# Altium schematic symbol library Team Starcraft.SchLib: 46 symbols
Pins are listed as number, name and electrical type; pins without a type are passive.

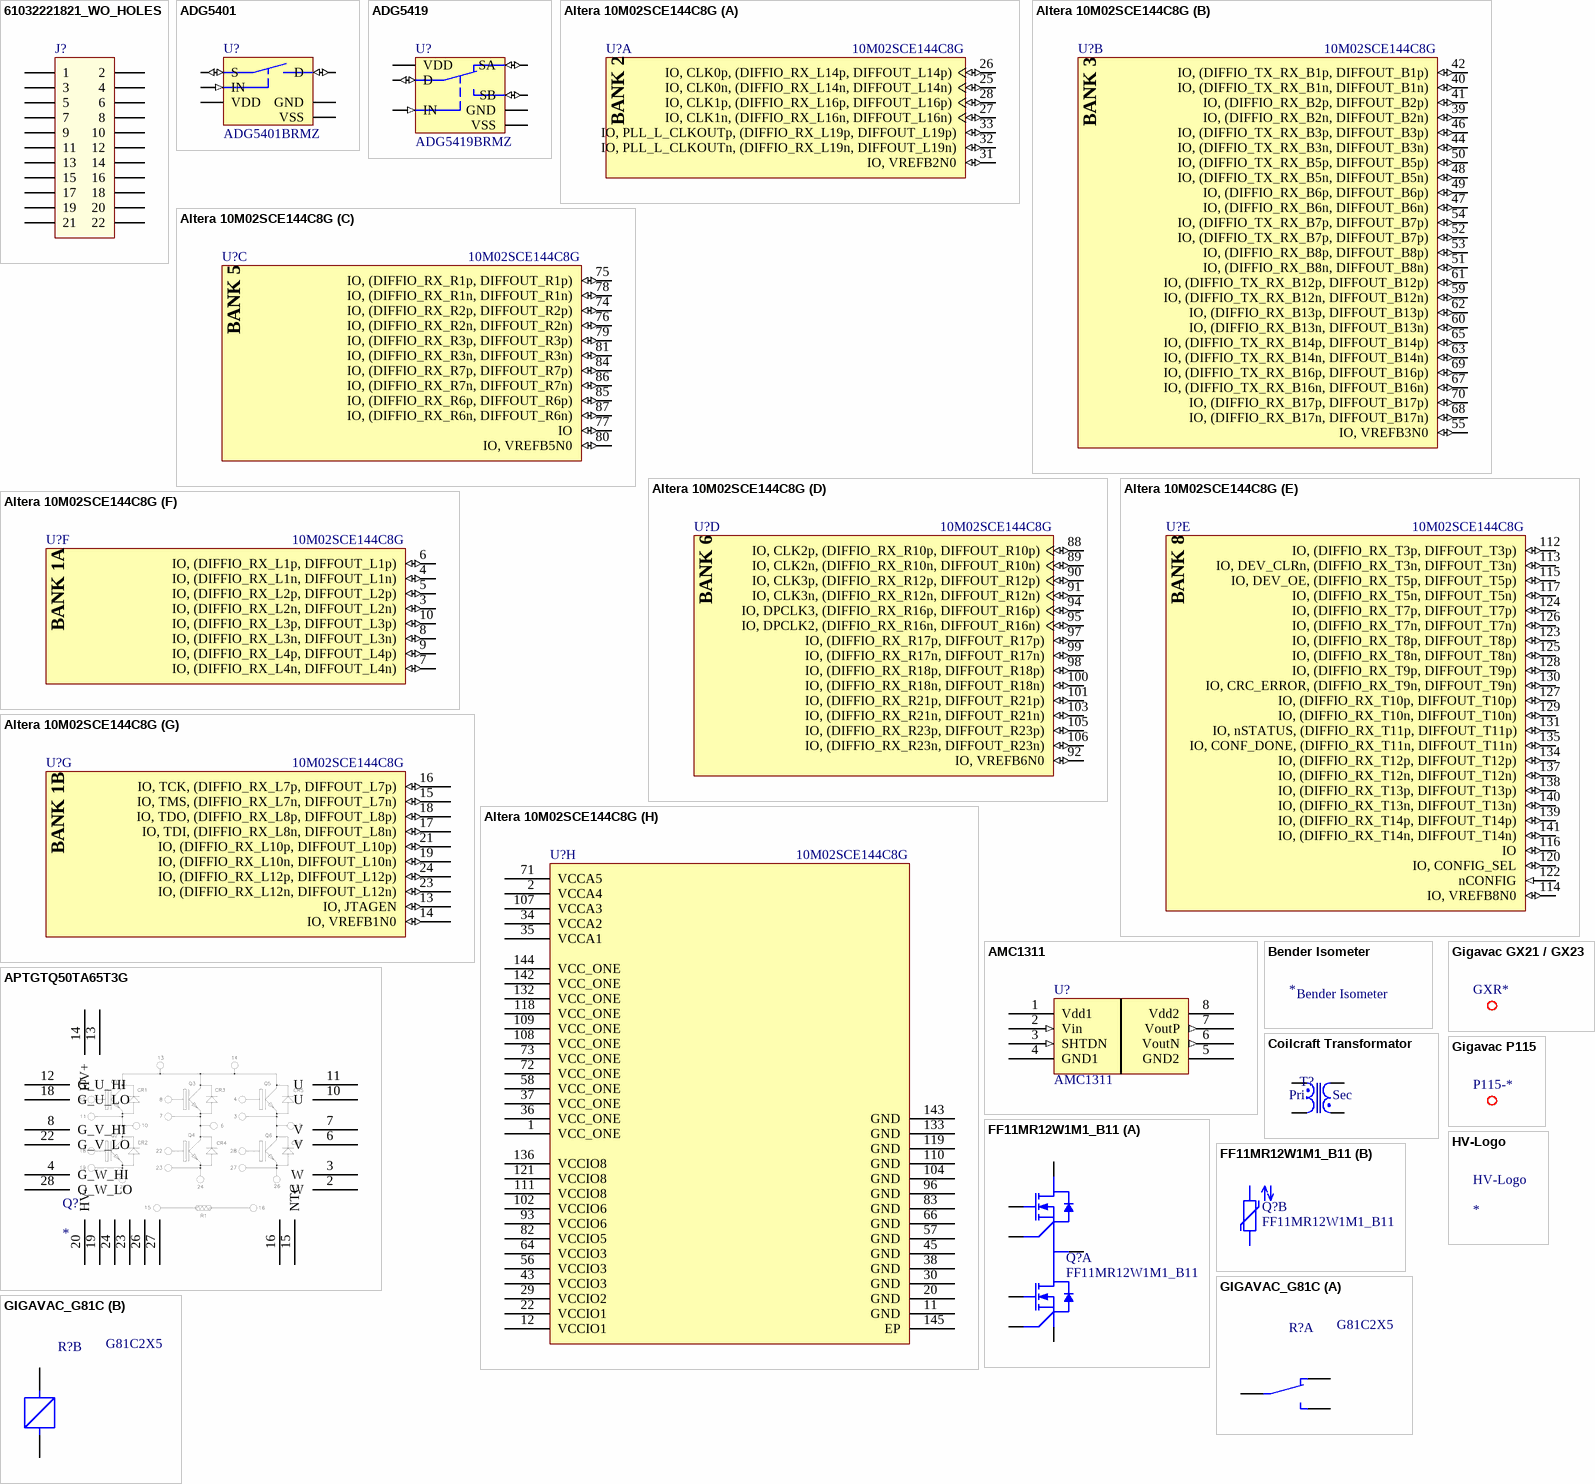
[diagram p0: symbols 61032221821_WO_HOLES to HV-Logo]

## 61032221821_WO_HOLES
designator J?
WR-PHD 2.54 mm Dual SMT Socket Header, 22p; Part Number: 61032221821; Pin Number: 22; Rated Current: 3A; Working Voltage: 250V AC; Withstanding Voltage: 600V AC; Pitch: 2.54mm; ComponentLink1Description: Manufacturer; ComponentLink1URL: http://www.we-online.de; ComponentLink2Description: Datasheet; ComponentLink2URL: http://katalog.we-online.de/em/datasheet/6103xx21821.pdf; Published Date: August 2017; Publisher: Wurth Elektronik
footprint 61032221821_WO_HOLES (Dual SMT Socket Header, pitch 2.54mm, 22p, without holes)
pins: 1, 2, 3, 4, 5, 6, 7, 8, 9, 10, 11, 12, 13, 14, 15, 16, 17, 18, 19, 20, 21, 22

## ADG5401
designator U?, comment ADG5401BRMZ
High Voltage Latch-Up Proof, Single SPST Switch / ±9 V to ±22 V dual-supply operation / 9 V to 40 V single-supply operation; ComponentLink1Description: Webpage; ComponentLink1URL: https://www.analog.com/en/products/adg5401.html; ComponentLink2Description: Datasheet; ComponentLink2URL: https://www.analog.com/media/en/technical-documentation/data-sheets/ADG5401.pdf
footprint ANALOG_RM8 (Analog Devices 8-Lead Mini Small Outline Package [MSOP])
pins: 1 S (io), 3 GND (power), 4 VDD (power), 6 IN (in), 7 VSS (power), 8 D (io)

## ADG5419
designator U?, comment ADG5419BRMZ
High Voltage Latch-Up Proof, Single SPDT Switch / ±9 V to ±22 V dual-supply operation / 9 V to 40 V single-supply operation; ComponentLink1Description: Webpage; ComponentLink1URL: https://www.analog.com/en/products/adg5401.html; ComponentLink2Description: Datasheet; ComponentLink2URL: https://www.analog.com/media/en/technical-documentation/data-sheets/ADG5401.pdf
footprint ANALOG_RM8 (Analog Devices 8-Lead Mini Small Outline Package [MSOP])
pins: 1 D (io), 2 SA (io), 3 GND (power), 4 VDD (power), 6 IN (in), 7 VSS (power), 8 SB (io)

## Altera 10M02SCE144C8G
designator U?, comment 10M02SCE144C8G
FPGA, 101 I/O, 2000LE, single power supply
footprint Altera EQFP144 (SQFP, 144-Leads, Body 20,00x20,00mm, Pitch 0,50mm, Thermal Pad 4,15x4,15mm, IPC Low Density)
part A pins: 25 IO, CLK0n, (DIFFIO_RX_L14n, DIFFOUT_L14n) (io), 26 IO, CLK0p, (DIFFIO_RX_L14p, DIFFOUT_L14p) (io), 27 IO, CLK1n, (DIFFIO_RX_L16n, DIFFOUT_L16n) (io), 28 IO, CLK1p, (DIFFIO_RX_L16p, DIFFOUT_L16p) (io), 31 IO, VREFB2N0 (io), 32 IO, PLL_L_CLKOUTn, (DIFFIO_RX_L19n, DIFFOUT_L19n) (io), 33 IO, PLL_L_CLKOUTp, (DIFFIO_RX_L19p, DIFFOUT_L19p) (io)
part B pins: 39 IO, (DIFFIO_RX_B2n, DIFFOUT_B2n) (io), 40 IO, (DIFFIO_TX_RX_B1n, DIFFOUT_B1n) (io), 41 IO, (DIFFIO_RX_B2p, DIFFOUT_B2p) (io), 42 IO, (DIFFIO_TX_RX_B1p, DIFFOUT_B1p) (io), 44 IO, (DIFFIO_TX_RX_B3n, DIFFOUT_B3n) (io), 46 IO, (DIFFIO_TX_RX_B3p, DIFFOUT_B3p) (io), 47 IO, (DIFFIO_RX_B6n, DIFFOUT_B6n) (io), 48 IO, (DIFFIO_TX_RX_B5n, DIFFOUT_B5n) (io), 49 IO, (DIFFIO_RX_B6p, DIFFOUT_B6p) (io), 50 IO, (DIFFIO_TX_RX_B5p, DIFFOUT_B5p) (io), 51 IO, (DIFFIO_RX_B8n, DIFFOUT_B8n) (io), 52 IO, (DIFFIO_TX_RX_B7p, DIFFOUT_B7p) (io), 53 IO, (DIFFIO_RX_B8p, DIFFOUT_B8p) (io), 54 IO, (DIFFIO_TX_RX_B7p, DIFFOUT_B7p) (io), 55 IO, VREFB3N0 (io), 59 IO, (DIFFIO_TX_RX_B12n, DIFFOUT_B12n) (io), 60 IO, (DIFFIO_RX_B13n, DIFFOUT_B13n) (io), 61 IO, (DIFFIO_TX_RX_B12p, DIFFOUT_B12p) (io), 62 IO, (DIFFIO_RX_B13p, DIFFOUT_B13p) (io), 63 IO, (DIFFIO_TX_RX_B14n, DIFFOUT_B14n) (io), 65 IO, (DIFFIO_TX_RX_B14p, DIFFOUT_B14p) (io), 67 IO, (DIFFIO_TX_RX_B16n, DIFFOUT_B16n) (io), 68 IO, (DIFFIO_RX_B17n, DIFFOUT_B17n) (io), 69 IO, (DIFFIO_TX_RX_B16p, DIFFOUT_B16p) (io), 70 IO, (DIFFIO_RX_B17p, DIFFOUT_B17p) (io)
part C pins: 74 IO, (DIFFIO_RX_R2p, DIFFOUT_R2p) (io), 75 IO, (DIFFIO_RX_R1p, DIFFOUT_R1p) (io), 76 IO, (DIFFIO_RX_R2n, DIFFOUT_R2n) (io), 77 IO (io), 78 IO, (DIFFIO_RX_R1n, DIFFOUT_R1n) (io), 79 IO, (DIFFIO_RX_R3p, DIFFOUT_R3p) (io), 80 IO, VREFB5N0 (io), 81 IO, (DIFFIO_RX_R3n, DIFFOUT_R3n) (io), 84 IO, (DIFFIO_RX_R7p, DIFFOUT_R7p) (io), 85 IO, (DIFFIO_RX_R6p, DIFFOUT_R6p) (io), 86 IO, (DIFFIO_RX_R7n, DIFFOUT_R7n) (io), 87 IO, (DIFFIO_RX_R6n, DIFFOUT_R6n) (io)
part D pins: 88 IO, CLK2p, (DIFFIO_RX_R10p, DIFFOUT_R10p) (io), 89 IO, CLK2n, (DIFFIO_RX_R10n, DIFFOUT_R10n) (io), 90 IO, CLK3p, (DIFFIO_RX_R12p, DIFFOUT_R12p) (io), 91 IO, CLK3n, (DIFFIO_RX_R12n, DIFFOUT_R12n) (io), 92 IO, VREFB6N0 (io), 94 IO, DPCLK3, (DIFFIO_RX_R16p, DIFFOUT_R16p) (io), 95 IO, DPCLK2, (DIFFIO_RX_R16n, DIFFOUT_R16n) (io), 97 IO, (DIFFIO_RX_R17p, DIFFOUT_R17p) (io), 98 IO, (DIFFIO_RX_R18p, DIFFOUT_R18p) (io), 99 IO, (DIFFIO_RX_R17n, DIFFOUT_R17n) (io), 100 IO, (DIFFIO_RX_R18n, DIFFOUT_R18n) (io), 101 IO, (DIFFIO_RX_R21p, DIFFOUT_R21p) (io), 103 IO, (DIFFIO_RX_R21n, DIFFOUT_R21n) (io), 105 IO, (DIFFIO_RX_R23p, DIFFOUT_R23p) (io), 106 IO, (DIFFIO_RX_R23n, DIFFOUT_R23n) (io)
part E pins: 112 IO, (DIFFIO_RX_T3p, DIFFOUT_T3p) (io), 113 IO, DEV_CLRn, (DIFFIO_RX_T3n, DIFFOUT_T3n) (io), 114 IO, VREFB8N0 (io), 115 IO, DEV_OE, (DIFFIO_RX_T5p, DIFFOUT_T5p) (io), 116 IO (io), 117 IO, (DIFFIO_RX_T5n, DIFFOUT_T5n) (io), 120 IO, CONFIG_SEL (io), 122 nCONFIG (in), 123 IO, (DIFFIO_RX_T8p, DIFFOUT_T8p) (io), 124 IO, (DIFFIO_RX_T7p, DIFFOUT_T7p) (io), 125 IO, (DIFFIO_RX_T8n, DIFFOUT_T8n) (io), 126 IO, (DIFFIO_RX_T7n, DIFFOUT_T7n) (io), 127 IO, (DIFFIO_RX_T10p, DIFFOUT_T10p) (io), 128 IO, (DIFFIO_RX_T9p, DIFFOUT_T9p) (io), 129 IO, (DIFFIO_RX_T10n, DIFFOUT_T10n) (io), 130 IO, CRC_ERROR, (DIFFIO_RX_T9n, DIFFOUT_T9n) (io), 131 IO, nSTATUS, (DIFFIO_RX_T11p, DIFFOUT_T11p) (io), 134 IO, (DIFFIO_RX_T12p, DIFFOUT_T12p) (io), 135 IO, CONF_DONE, (DIFFIO_RX_T11n, DIFFOUT_T11n) (io), 137 IO, (DIFFIO_RX_T12n, DIFFOUT_T12n) (io), 138 IO, (DIFFIO_RX_T13p, DIFFOUT_T13p) (io), 139 IO, (DIFFIO_RX_T14p, DIFFOUT_T14p) (io), 140 IO, (DIFFIO_RX_T13n, DIFFOUT_T13n) (io), 141 IO, (DIFFIO_RX_T14n, DIFFOUT_T14n) (io)
part F pins: 3 IO, (DIFFIO_RX_L2n, DIFFOUT_L2n) (io), 4 IO, (DIFFIO_RX_L1n, DIFFOUT_L1n) (io), 5 IO, (DIFFIO_RX_L2p, DIFFOUT_L2p) (io), 6 IO, (DIFFIO_RX_L1p, DIFFOUT_L1p) (io), 7 IO, (DIFFIO_RX_L4n, DIFFOUT_L4n) (io), 8 IO, (DIFFIO_RX_L3n, DIFFOUT_L3n) (io), 9 IO, (DIFFIO_RX_L4p, DIFFOUT_L4p) (io), 10 IO, (DIFFIO_RX_L3p, DIFFOUT_L3p) (io)
part G pins: 13 IO, JTAGEN (io), 14 IO, VREFB1N0 (io), 15 IO, TMS, (DIFFIO_RX_L7n, DIFFOUT_L7n) (io), 16 IO, TCK, (DIFFIO_RX_L7p, DIFFOUT_L7p) (io), 17 IO, TDI, (DIFFIO_RX_L8n, DIFFOUT_L8n) (io), 18 IO, TDO, (DIFFIO_RX_L8p, DIFFOUT_L8p) (io), 19 IO, (DIFFIO_RX_L10n, DIFFOUT_L10n) (io), 21 IO, (DIFFIO_RX_L10p, DIFFOUT_L10p) (io), 23 IO, (DIFFIO_RX_L12n, DIFFOUT_L12n) (io), 24 IO, (DIFFIO_RX_L12p, DIFFOUT_L12p) (io)
part H pins: 1 VCC_ONE (power), 2 VCCA4 (power), 11 GND (power), 12 VCCIO1 (power), 20 GND (power), 22 VCCIO1 (power), 29 VCCIO2 (power), 30 GND (power), 34 VCCA2 (power), 35 VCCA1 (power), 36 VCC_ONE (power), 37 VCC_ONE (power), 38 GND (power), 43 VCCIO3 (power), 45 GND (power), 56 VCCIO3 (power), 57 GND (power), 58 VCC_ONE (power), 64 VCCIO3 (power), 66 GND (power), 71 VCCA5 (power), 72 VCC_ONE (power), 73 VCC_ONE (power), 82 VCCIO5 (power), 83 GND (power), 93 VCCIO6 (power), 96 GND (power), 102 VCCIO6 (power), 104 GND (power), 107 VCCA3 (power), 108 VCC_ONE (power), 109 VCC_ONE (power), 110 GND (power), 111 VCCIO8 (power), 118 VCC_ONE (power), 119 GND (power), 121 VCCIO8 (power), 132 VCC_ONE (power), 133 GND (power), 136 VCCIO8 (power), 142 VCC_ONE (power), 143 GND (power), 144 VCC_ONE (power), 145 EP (power)
part A text: BANK 2
part B text: BANK 3
part C text: BANK 5
part D text: BANK 6
part E text: BANK 8
part F text: BANK 1A
part G text: BANK 1B

## AMC1311
designator U?
Precision Reinforced Isolated Amplifier for Voltage Sensing
footprint SOIC8W (SOIC, 8-Leads, Body 5,85mm x 7,50mm, Pitch 1,27mm, IPC Medium Density)
pins: 1 Vdd1 (power), 2 Vin (in), 3 SHTDN (in), 4 GND1 (power), 5 GND2 (power), 6 VoutN (out), 7 VoutP (out), 8 Vdd2 (power)

## APTGTQ50TA65T3G
designator Q?
footprint SP3F
pins: 2 W, 3 W, 4 G_W_HI, 6 V, 7 V, 8 G_V_HI, 10 U, 11 U, 12 G_U_HI, 13 HV+, 14 HV+, 15 NTC, 16 NTC, 18 G_U_LO, 19 U_HV-, 20 HV-, 22 G_V_LO, 23 V_HV-, 24 V_HV-, 26 W_HV-, 27 W_HV-, 28 G_W_LO

## Bender Isometer
designator Bender Isometer
footprint Bender Isometer (Placeholder for Bender Isometer)

## Coilcraft Transformator
designator T?, comment Coilcraft MA5421-AL  (value not drawn)
Coilcraft Transformator 3.4uH 1:1; Order Nr.: 750312504; Hersteller: Würth
footprint MA5421-AL (Coilcraft MA5421-AL)
pins: 1, 5, 6, 10
text: Pri; Sec

## FF11MR12W1M1_B11
designator Q?
SiC Halfbridge
footprint FF11MR12W1M1_B11 (Infineon EasyDUAL package for FF11MR12W1M1_B11)
part A pins: DC+, DC-, G_HS, G_LS, PHASE, S_HS, S_LS
part B pins: NTC_1, NTC_2

## Gigavac GX21 / GX23
designator GXR*  (value not drawn)
footprint Gigavac GX21

## Gigavac P115
designator P115-*  (value not drawn)
footprint Gigavac P115

## GIGAVAC_G81C
designator R?, comment G81C2X5
10kV SPDT HV Relay / Single Pole Double Throw / 12V  coil / X=3 for pins, 4 for wires
footprint GIGAVAC_G81C
footprint GIGAVAC_G81C_wired
part A pins: 1 NO, 2 NC, 3 COM
part B pins: L1, L2

## HV-Logo
designator HV-Logo
footprint HV-Logo

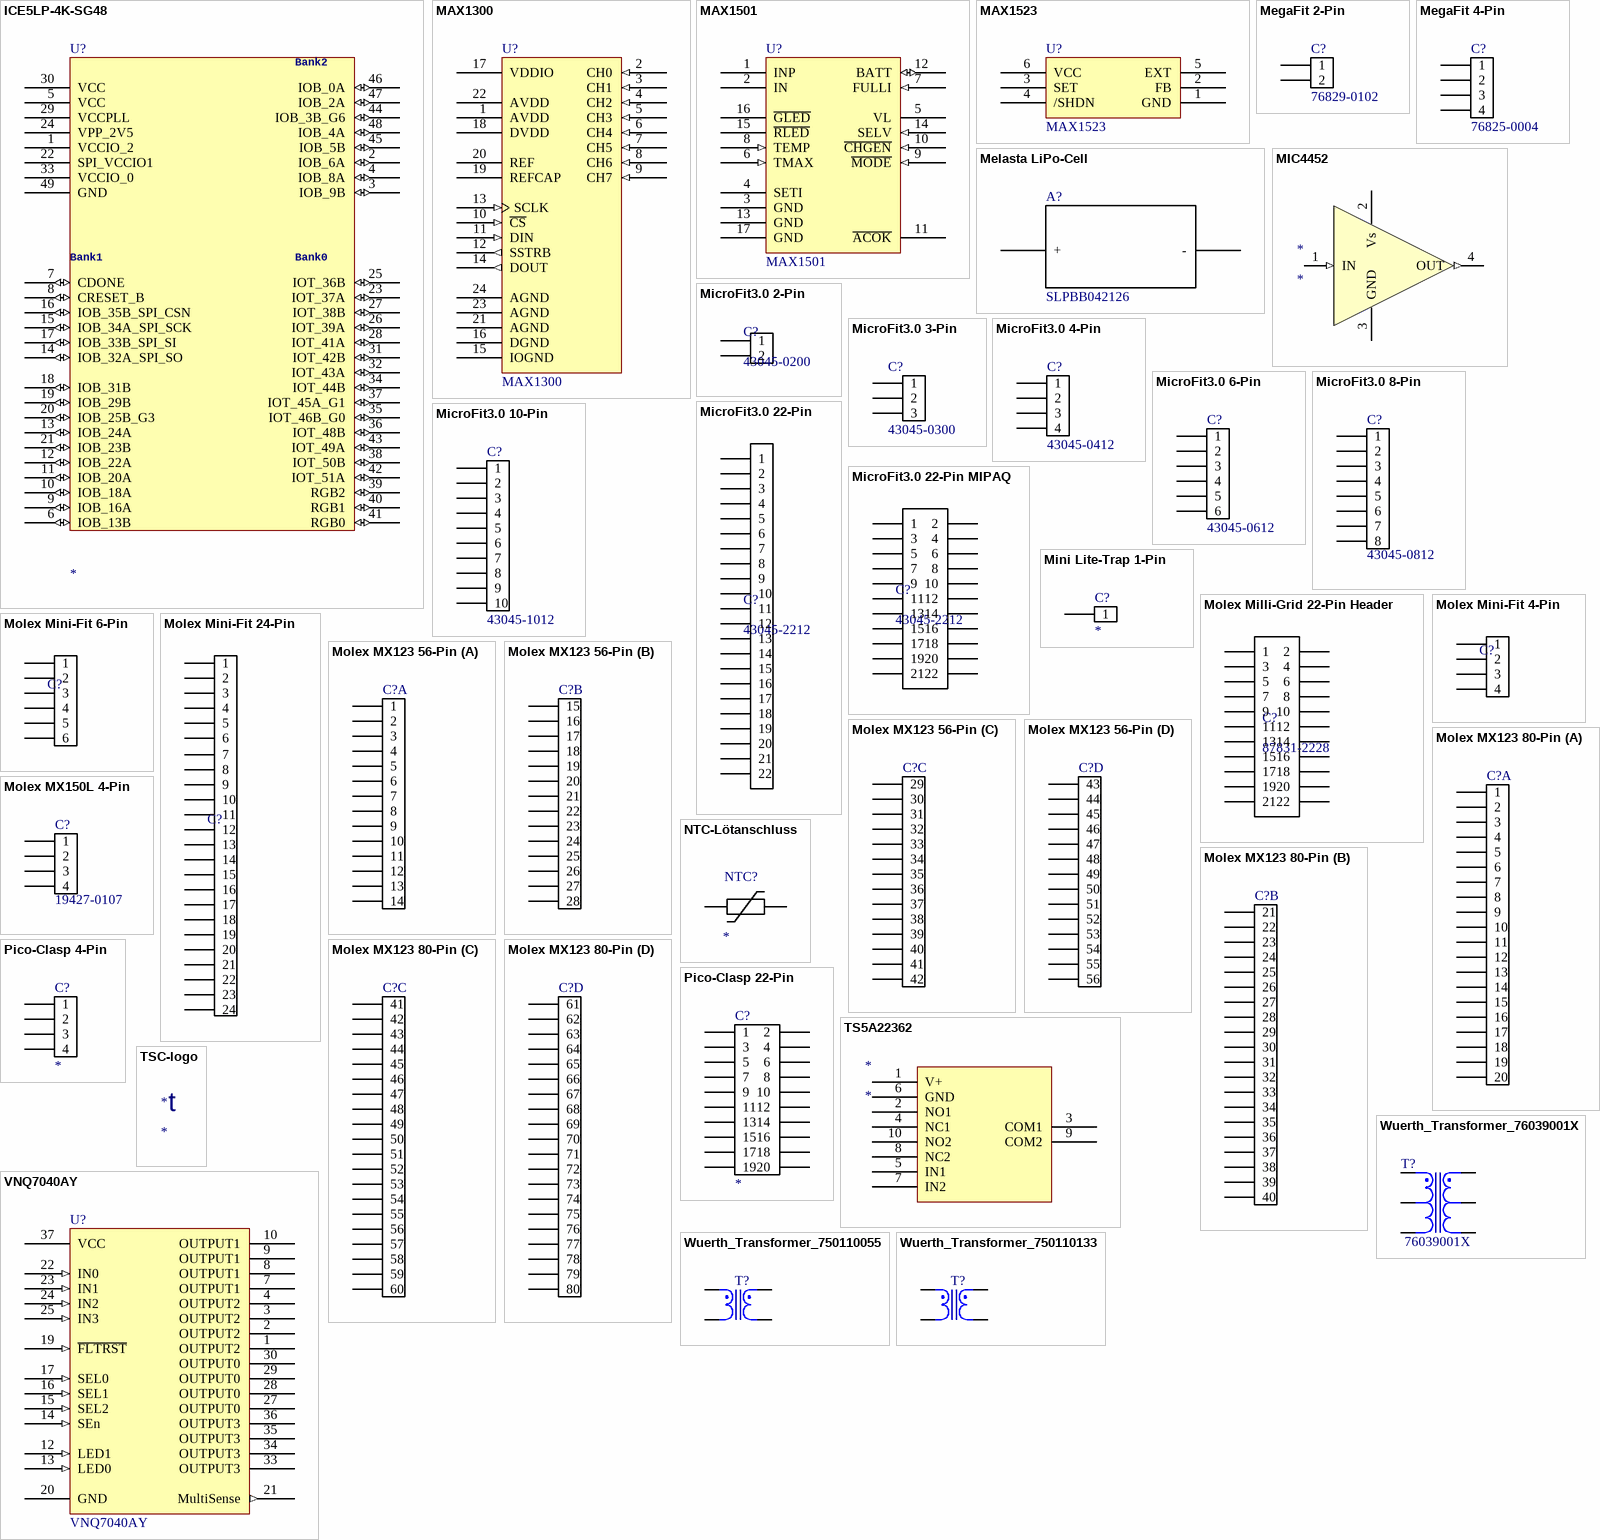
[diagram p1: symbols ICE5LP-4K-SG48 to Wuerth_Transformer_750110133]

## ICE5LP-4K-SG48
designator U?
Lattice 4k LE FPGA with integrated oscillators
footprint Lattice-SG48 (QFN, 48-Leads, Body 7,00x7,00mm, Pitch 0,50mm, Thermal Pad 4,40x4,40mm, IPC Low Density)
pins: 1 VCCIO_2 (power), 2 IOB_6A (io), 3 IOB_9B (io), 4 IOB_8A (io), 5 VCC (power), 6 IOB_13B (io), 7 CDONE (io), 8 CRESET_B (io), 9 IOB_16A (io), 10 IOB_18A (io), 11 IOB_20A (io), 12 IOB_22A (io), 13 IOB_24A (io), 14 IOB_32A_SPI_SO (io), 15 IOB_34A_SPI_SCK (io), 16 IOB_35B_SPI_CSN (io), 17 IOB_33B_SPI_SI (io), 18 IOB_31B (io), 19 IOB_29B (io), 20 IOB_25B_G3 (io), 21 IOB_23B (io), 22 SPI_VCCIO1 (power), 23 IOT_37A (io), 24 VPP_2V5 (power), 25 IOT_36B (io), 26 IOT_39A (io), 27 IOT_38B (io), 28 IOT_41A (io), 29 VCCPLL (power), 30 VCC (power), 31 IOT_42B (io), 32 IOT_43A (io), 33 VCCIO_0 (power), 34 IOT_44B (io), 35 IOT_46B_G0 (io), 36 IOT_48B (io), 37 IOT_45A_G1 (io), 38 IOT_50B (io), 39 RGB2 (io), 40 RGB1 (io), 41 RGB0 (io), 42 IOT_51A (io), 43 IOT_49A (io), 44 IOB_3B_G6 (io), 45 IOB_5B (io), 46 IOB_0A (io), 47 IOB_2A (io), 48 IOB_4A (io), 49 GND (power)
text: Bank2; Bank1; Bank0

## MAX1300
designator U?
footprint 24-TSSOP
pins: 1 AVDD (power), 2 CH0 (in), 3 CH1 (in), 4 CH2 (in), 5 CH3 (in), 6 CH4 (in), 7 CH5 (in), 8 CH6 (in), 9 CH7 (in), 10 ~{CS} (in), 11 DIN (in), 12 SSTRB (out), 13 SCLK (in), 14 DOUT (out), 15 IOGND (power), 16 DGND (power), 17 VDDIO (power), 18 DVDD (power), 19 REFCAP (power), 20 REF (power), 21 AGND (power), 22 AVDD (power), 23 AGND (power), 24 AGND (power)

## MAX1501
designator U?
Highly Integrated, Linear Battery Charger with / Thermal Regulation for Portable Applications
footprint 16-TQFN (QFN, 16-Leads, Body 5,00x5,00mm, Pitch 0,80mm, Thermal Pad 2,63x2,63mm, IPC Medium Density)
pins: 1 INP (power), 2 IN (power), 3 GND (power), 4 SETI (oe), 5 VL (power), 6 TMAX (in), 7 FULLI (in), 8 TEMP (in), 9 ~{MODE} (in), 10 ~{CHGEN} (in), 11 ~{ACOK} (oc), 12 BATT (io), 13 GND (power), 14 SELV (in), 15 ~{RLED} (oc), 16 ~{GLED} (oc), 17 GND (power)

## MAX1523
designator U?
footprint SOT23-6_M
pins: 1 GND, 2 FB, 3 SET, 4 /SHDN, 5 EXT, 6 VCC

## MegaFit 2-Pin
designator C?, comment 76829-0102
Molex Mega-Fit 2-Pin / 600V / 23A
footprint 76829-0102 (Mega-Fit Slim Vertical Header, Through Hole, 5.70mm Pitch, Dual Row, 2 Circuits, 1.52µm Tin (Sn) Plating, Glow-Wire Capable, Black)
footprint 76829-0002 (Mega-Fit Vertical Header, Through Hole, 5.70mm Pitch, Dual Row, 2 Circuits, 1.52µm Tin (Sn) Plating, Glow-Wire Capable, Black)
footprint 76825-0002 (Mega-Fit Right-Angle Header, 2 Circuits, Tin (Sn) Plating, UL 94 V-0, Tray)
pins: 1, 2

## MegaFit 4-Pin
designator C?, comment 76825-0004
Molex Mega-Fit 4-Pin / 600V / 23A
footprint 76825-0004 (Mega-Fit Right-Angle Header, 4 Circuits, Tin (Sn) Plating, UL 94 V-0, Tray)
footprint 76829-0004 (Mega-Fit Vertical Header, Through Hole, 5.70mm Pitch, Dual Row, 4 Circuits, 1.52µm Tin (Sn) Plating, Glow-Wire Capable, Black)
footprint 76829-0104 (Mega-Fit Slim Vertical Header, Through Hole, 5.70mm Pitch, Dual Row, 2 Circuits, 1.52µm Tin (Sn) Plating, Glow-Wire Capable, Black)
pins: 1, 2, 3, 4

## Melasta LiPo-Cell
designator A?, comment SLPBB042126
footprint Melasta Cell (Melasta SLPBXX-Cell for TSC-5E)
pins: 0 +, 1 -

## MIC4452
designator *
footprint MIC4452_SOIC (SOIC, 8-Leads, Body 4,90x3,90mm, Pitch 1,27mm, IPC Low Density); pin to pad 1>2 2>1+8 3>4+5 4>6+7
pins: 1 IN (in), 2 Vs (power), 3 GND (power), 4 OUT (out)

## MicroFit3.0 2-Pin
designator C?, comment 43045-0200
Molex Micro-Fit 3.0 2-Pin / 600V / 8.5A
footprint 43045-0200 (Molex Micro-fit 3.0 Dual Row 2 Circuit, right angle, header)
footprint 43045-0212
footprint 43650-0200 (Micro-Fit 3.0 Right Angle Header, 3.00mm Pitch, Single Row, 2 Circuits)
footprint 43650-0215 (Micro-Fit 3.0 Vertical Header, 3.00mm Pitch, Single Row, 2 Circuits)
pins: 1, 2

## MicroFit3.0 3-Pin
designator C?, comment 43045-0300
Molex Micro-Fit 3.0 3-Pin / 600V / 8.5A
footprint 43650-0300 (Micro-Fit 3.0 Right Angle Header, 3.00mm Pitch, Single Row, 3 Circuits)
footprint 43650-0312 (Micro-Fit 3.0 Right Angle Header, 3.00mm Pitch, Single Row, 3 Circuits, with Solder Tab, Tin, Glow Wire Capable, Black)
footprint 43650-0309 (Micro-Fit 3.0 Right-Angle Header, 3.00mm Pitch, Single Row, 3 Circuits, with PCB Press-fit Metal Retention Clip, Tin, Glow-Wire Capable, Black)
footprint 43650-0315 (Micro-Fit 3.0 Vertical Header, 3.00mm Pitch, Single Row, 3 Circuits)
pins: 1, 2, 3

## MicroFit3.0 4-Pin
designator C?, comment 43045-0412
Molex Micro-Fit 3.0 4-Pin / 600V / 8.5A
footprint 43045-0412
footprint 43650-0412 (Micro-Fit 3.0 Right Angle Header, 3.00mm Pitch, Single Row, 4 Circuits, with Solder Tab, Tin, Glow Wire Capable, Black)
footprint 43045-0400 (Micro-Fit 3.0 Right Angle Header, 3.00mm Pitch, Dual Row, 4 Circuits)
footprint 43650-0409 (Micro-Fit 3.0 Right-Angle Header, 3.00mm Pitch, Single Row, 4 Circuits, with PCB Press-fit Metal Retention Clip, Tin, Glow-Wire Capable, Black)
footprint 43650-0415 (Micro-Fit 3.0 Vertical Header, 3.00mm Pitch, Single Row, 4 Circuits)
pins: 1, 2, 3, 4

## MicroFit3.0 6-Pin
designator C?, comment 43045-0612
Molex Micro-Fit 3.0 6-Pin / 600V / 8.5A
footprint 43045-0612
footprint 43045-0600 (Micro-Fit 3.0 Right Angle Header, 3.00mm Pitch, Dual Row, 6 Circuits)
pins: 1, 2, 3, 4, 5, 6

## MicroFit3.0 8-Pin
designator C?, comment 43045-0812
Molex Micro-Fit 3.0 8-Pin / 600V / 8.5A
footprint 43045-0812
footprint 43045-0800 (Micro-Fit 3.0 Right Angle Header, 3.00mm Pitch, Dual Row, 8 Circuits)
pins: 1, 2, 3, 4, 5, 6, 7, 8

## MicroFit3.0 10-Pin
designator C?, comment 43045-1012
Micro-Fit 3.0 10-Pin / 600V / 8.5A
footprint 43045-1012
footprint 43045-1000 (Micro-Fit 3.0 Right Angle Header, 3.00mm Pitch, Dual Row, 10 Circuits)
pins: 1, 2, 3, 4, 5, 6, 7, 8, 9, 10

## MicroFit3.0 22-Pin
designator C?, comment 43045-2212
Molex Micro-Fit 3.0 22-Pin / 600V / 8.5A
footprint 43045-2212
pins: 1, 2, 3, 4, 5, 6, 7, 8, 9, 10, 11, 12, 13, 14, 15, 16, 17, 18, 19, 20, 21, 22

## MicroFit3.0 22-Pin MIPAQ
designator C?, comment 43045-2212
Molex Micro-Fit 3.0 22-Pin MIPAQ / 600V / 8.5A
footprint 43045-2212; pin to pad 2>22 3>2 4>21 5>3 6>20 7>4 8>19 9>5 10>18 11>6 12>17 13>7 14>16 15>8 16>15 17>9 18>14 19>10 20>13 21>11 22>12
pins: 1, 2, 3, 4, 5, 6, 7, 8, 9, 10, 11, 12, 13, 14, 15, 16, 17, 18, 19, 20, 21, 22

## Mini Lite-Trap 1-Pin
designator C?
Molex Mini Lite-Trap 1-Pin / 160V / 3A
footprint 104238-0110 (Mini Lite-Trap SMT Wire-to-Board Connector, Push-Button Type, 1 Circuit)
pins: 1

## Molex Milli-Grid 22-Pin Header
designator C?, comment 87831-2228
Molex Milli-Grid 22-Pin Header
footprint 87831-2228
pins: 1, 2, 3, 4, 5, 6, 7, 8, 9, 10, 11, 12, 13, 14, 15, 16, 17, 18, 19, 20, 21, 22

## Molex Mini-Fit 4-Pin
designator C?
Molex Mini-Fit 4-Pin
footprint Mini-Fit 15-24-6040 (Mini-Fit BMI Header 4 circuits)
footprint Mini-Fit 15-24-7040 (Mini-Fit BMI Receptacle Header 4 circuits)
pins: 1, 2, 3, 4

## Molex Mini-Fit 6-Pin
designator C?
Molex Mini-Fit 6-Pin
footprint Mini-Fit 15-24-6060 (Mini-Fit BMI Header 6 circuits)
footprint Mini-Fit 15-24-7060 (Mini-Fit BMI Receptacle Header 6 circuits)
pins: 1, 2, 3, 4, 5, 6

## Molex Mini-Fit 24-Pin
designator C?
Molex Mini-Fit 24-Pin
footprint Mini-Fit 15-24-7240 (Mini-Fit BMI Receptacle Header 24 circuits)
footprint Mini-Fit 15-24-6240 (Mini-Fit BMI Header 24 circuits)
pins: 1, 2, 3, 4, 5, 6, 7, 8, 9, 10, 11, 12, 13, 14, 15, 16, 17, 18, 19, 20, 21, 22, 23, 24

## Molex MX123 56-Pin
designator C?
Molex MX123 56-Pin
footprint MX123 313862001 (56-Pin vertical sealed header)
part A pins: 1, 2, 3, 4, 5, 6, 7, 8, 9, 10, 11, 12, 13, 14
part B pins: 15, 16, 17, 18, 19, 20, 21, 22, 23, 24, 25, 26, 27, 28
part C pins: 29, 30, 31, 32, 33, 34, 35, 36, 37, 38, 39, 40, 41, 42
part D pins: 43, 44, 45, 46, 47, 48, 49, 50, 51, 52, 53, 54, 55, 56

## Molex MX123 80-Pin
designator C?
Molex MX123 80-Pin
footprint MX123 313874001 (80-Pin vertical sealed header)
part A pins: 1, 2, 3, 4, 5, 6, 7, 8, 9, 10, 11, 12, 13, 14, 15, 16, 17, 18, 19, 20
part B pins: 21, 22, 23, 24, 25, 26, 27, 28, 29, 30, 31, 32, 33, 34, 35, 36, 37, 38, 39, 40
part C pins: 41, 42, 43, 44, 45, 46, 47, 48, 49, 50, 51, 52, 53, 54, 55, 56, 57, 58, 59, 60
part D pins: 61, 62, 63, 64, 65, 66, 67, 68, 69, 70, 71, 72, 73, 74, 75, 76, 77, 78, 79, 80

## Molex MX150L 4-Pin
designator C?, comment 19427-0107
Molex MX150L 4-Pin
footprint MX150L 19427-0107
pins: 1, 2, 3, 4

## NTC-Lötanschluss
designator NTC?
footprint NTC-Lötanschluss (für die Zelltemperatur)
pins: 0, 1

## Pico-Clasp 4-Pin
designator C?
Molex Pico-Clasp 3.0 4-Pin / 50V / 1.0A
footprint 203560-0403 (1.00mm Pitch Pico-Clasp Wire-to-Board Header, Surface Mount, Single Row, Vertical, 0.38µm Gold Plated, with Outer Positive Lock, with Pick-and-Place Tape, 4 Circuits)
footprint 203562-0405 (1.00mm Pitch Pico-Clasp Wire-to-Board Header, Surface Mount, Single Row, Right-Angle, 0.38µm Gold Plated, with Outer Positive Lock, 4 Circuits)
pins: 1, 2, 3, 4

## Pico-Clasp 22-Pin
designator C?
Molex Pico-Clasp 22-Pin / 50V / 1.0A
footprint 203567-2007 (1.00mm Pitch Pico-Clasp Wire-to-Board Header, Surface Mount, Dual Row, Right-Angle, 0.76µm Gold Plated, with Inner Positive Lock, 20 Circuits)
footprint 203564-2017 (1.00mm Pitch Pico-Clasp Wire-to-Board Header, Surface Mount, Dual Row, Vertical, 0.38µm Gold Plated, with Inner Positive Lock, with Pick-and-Place Tape, 20 Circuits)
pins: 1, 2, 3, 4, 5, 6, 7, 8, 9, 10, 11, 12, 13, 14, 15, 16, 17, 18, 19, 20

## TS5A22362
designator *
footprint TSSOP50P490X110-10M (TSSOP, 10-Leads, Body 3,00x3,00mm, Pitch 0,50mm, IPC Low Density)
pins: 1 V+, 2 NO1, 3 COM1, 4 NC1, 5 IN1, 6 GND, 7 IN2, 8 NC2, 9 COM2, 10 NO2

## TSC-logo
designator *
footprint TSC-logo
text: t

## VNQ7040AY
designator U?
footprint ST_PowerSSO36 (STMicro PowerSSO36)
pins: 1 OUTPUT2 (oe), 2 OUTPUT2 (oe), 3 OUTPUT2 (oe), 4 OUTPUT2 (oe), 7 OUTPUT1 (oe), 8 OUTPUT1 (oe), 9 OUTPUT1 (oe), 10 OUTPUT1 (oe), 12 LED1 (in), 13 LED0 (in), 14 SEn (in), 15 SEL2 (in), 16 SEL1 (in), 17 SEL0 (in), 19 ~{FLTRST} (in), 20 GND (power), 21 MultiSense (out), 22 IN0 (in), 23 IN1 (in), 24 IN2 (in), 25 IN3 (in), 27 OUTPUT0 (oe), 28 OUTPUT0 (oe), 29 OUTPUT0 (oe), 30 OUTPUT0 (oe), 33 OUTPUT3 (oe), 34 OUTPUT3 (oe), 35 OUTPUT3 (oe), 36 OUTPUT3 (oe), 37 VCC (power)

## Wuerth_Transformer_76039001X
designator T?, comment 76039001X
MID-PPTI Push-Pull Transformers for Texas Instruments / 760390012: 1:1.1 / 760390013: 1:1.7 / 760390014: 1:1.4 / 760390015 1:2; Order Nr.: 750312504; Hersteller: Würth
footprint Wuerth_76039001X
pins: 1, 2, 3, 4, 5, 6

## Wuerth_Transformer_750110055
designator T?, comment 750110055  (value not drawn)
Würth Toroid Transformer 1:1 70µH; Order Nr.: 750312504; Hersteller: Würth
footprint Wuerth_750110055
pins: 1, 2, 3, 4

## Wuerth_Transformer_750110133
designator T?, comment 750110133  (value not drawn)
Würth TOR 4.3/2.8/2.3 Transformer 1:1 100µH; Order Nr.: 750312504; Hersteller: Würth
footprint Wuerth_750110133
pins: 1, 3, 4, 6